# Altium schematic symbol library 472192001.SchLib: 1 symbol
Pins are listed as number, name and electrical type; pins without a type are passive.

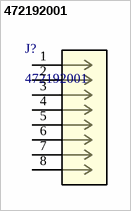
[diagram p0: symbol 472192001]

## 472192001
designator J?
1.10mm Pitch microSD Card Connector, Hinge Type, Lead-Free; Manufacturer_Name: Molex Connector Corporation; Copyright: Copyright (C) 2025 Ultra Librarian. All rights reserved.; Manufacturer_Part_Number: 472192001; RefDes: RefDes; Type: Type
footprint CONN_47219-2001_MOL
pins: 1 8, 2 7, 3 6, 4 5, 5 4, 6 3, 7 2, 8 1